# Altium footprint library TAUV-Lib.PcbLib: 56 footprints (part 2 of 4)
Each footprint in its own frame and in the unit in brackets; x right, y up, seen from the top. Pads: shape width x height; smd on the part's side, far side on the other; paste and mask are expansions set on the pad; w line width, h text height; cw(c..) or ccw(c..) is an arc to the next point about the centre after c.
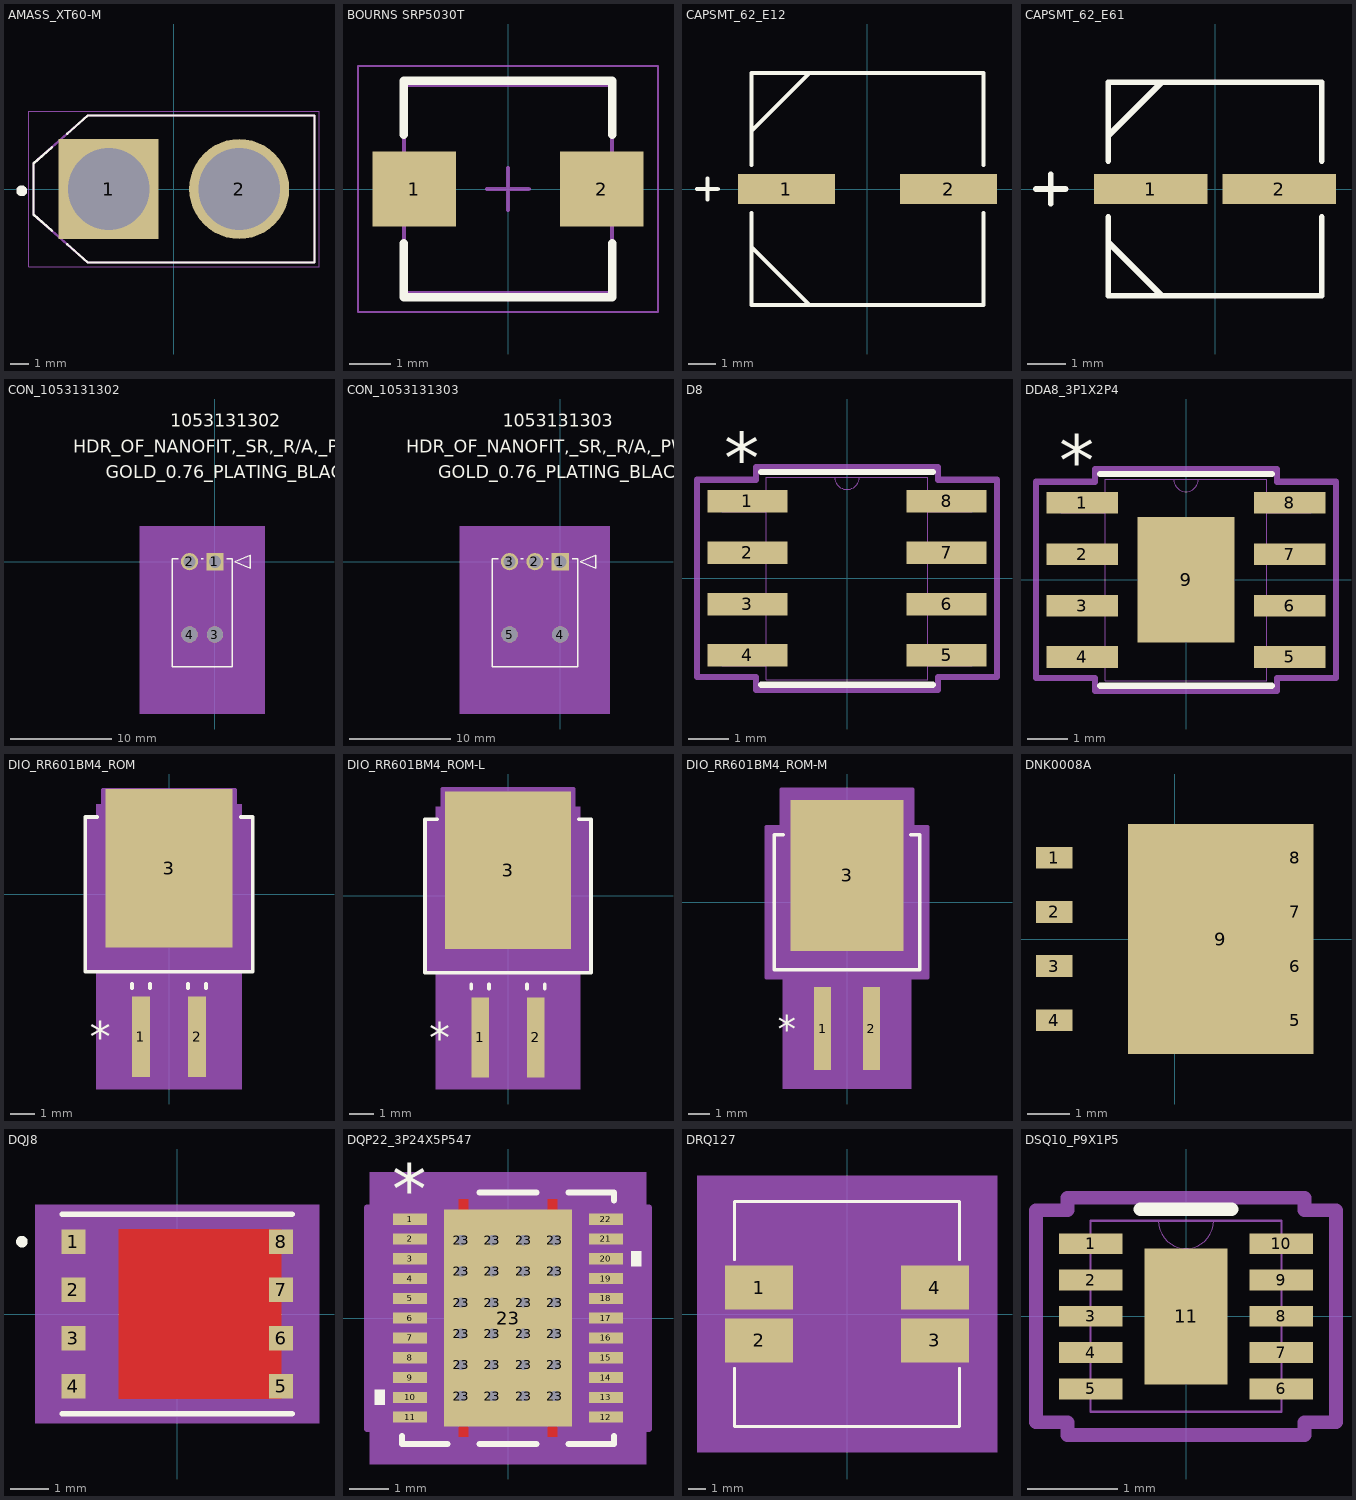
[diagram p1: the footprints below, top view; thin cyan lines are the x and y axes]

## AMASS_XT60-M [mm]
pads (2):
  rect 5.516x5.516 hole 4.5: 1(-3.6,0)
  round 5.516 hole 4.5: 2(3.6,0)
Top Overlay:
  circle w0.3: c-8.4,-0.1 r0.15
  lines w0.127: -6.73,-2.3 -7.75,-1.4 -7.75,1.4 -6.73,2.3 ; -5.88,-3.05 -4.75,-4.05 7.75,-4.05 7.75,4.05 -4.75,4.05 -5.88,3.05
Mechanical 4:
  lines w0.127: -7.75,-1.4 -7.75,1.4 ; -7.75,-1.4 -4.75,-4.05 ; -7.75,-1.4 -7.75,1.4 ; -7.75,-1.4 -4.75,-4.05 ; -7.75,1.4 -4.75,4.05 ; -7.75,1.4 -4.75,4.05 ; -4.75,-4.05 7.75,-4.05 ; -4.75,-4.05 7.75,-4.05 ; -4.75,4.05 7.75,4.05 ; -4.75,4.05 7.75,4.05 ; 7.75,-4.05 7.75,4.05 ; 7.75,-4.05 7.75,4.05
Mechanical 16:
  lines w0.05: -8,-4.3 -8,4.3 8,4.3 8,-4.3 -8,-4.3
3D body "XT60-M--3DModel-STEP-56544.STEP": height 16, standoff -4.5, extent -7.75,-3.923 7.75,4.177

## BOURNS SRP5030T [mm] "Precision Wire Wound Inductor, 2-Leads, Body 5.70x5.20mm, IPC Medium Density"
height 3
pads (2):
  rect 2x1.8 smd: 1(-2.25,0) 2(2.25,0)
Top Overlay:
  lines w0.2: -2.5,-1.3 -2.5,-2.6 2.5,-2.6 2.5,-1.3 ; -2.5,1.3 -2.5,2.6 2.5,2.6 2.5,1.3
Mechanical 13:
  lines w0.1: -2.5,-2.5 -2.5,2.5 2.5,2.5 2.5,-2.5 -2.5,-2.5
Mechanical 15:
  lines w0.05: -3.6,-2.95 -3.6,2.95 3.6,2.95 3.6,-2.95 -3.6,-2.95
  lines w0.1: -0.5,0 0.5,0 ; 0,-0.5 0,0.5
3D body "Bourns SRP5030T.STEP": height 3, standoff 0, extent -2.85,-2.6 2.85,2.6

## CAPSMT_62_E12 [mil]
pads (2):
  rect 140x43 smd: 1(-117,0) 2(117,0)
Top Overlay:
  lines w6: -246,0 -216,0 ; -231,-15 -231,15 ; -167.5,-83.75 -83.75,-167.5 ; -167.5,-34.6 -167.5,-167.5 167.5,-167.5 167.5,-34.6 ; -167.5,34.6 -167.5,167.5 167.5,167.5 167.5,34.6 ; -167.5,83.75 -83.75,167.5
3D body: height 10, standoff 0, extent 0,0 10,10

## CAPSMT_62_E61 [mil]
pads (2):
  rect 115.5x31 smd: 1(-65.25,0) 2(65.25,0)
Top Overlay:
  lines w6: -182,0 -152,0 ; -167,-15 -167,15 ; -108.5,-54.25 -54.25,-108.5 ; -108.5,-28.6 -108.5,-108.5 108.5,-108.5 108.5,-28.6 ; -108.5,28.6 -108.5,108.5 108.5,108.5 108.5,28.6 ; -108.5,54.25 -54.25,108.5
3D body: height 10, standoff 0, extent 0,0 10,10

## CON_1053131302 [mm]
pads (4):
  rect 1.7x1.7 hole 1.2 mask+0.076: 1(0,0)
  round 1.7 hole 1.2 mask+0.076: 2(-2.5,0)
  round 1.6 hole 1.6 unplated mask+0.076: 3(0,-7.18) 4(-2.5,-7.18)
Top Overlay:
  lines w0.127: -3.628,0.31 -4.22,0.31 -4.22,-10.38 1.72,-10.38 1.72,0.31 1.17,0.31 ; -1.372,0.31 -1.17,0.31 ; 1.974,0 3.498,0.635 3.498,-0.635 1.974,0
  text "1053131302" at -4.425,13.29 h1.27
  text "HDR_OF_NANOFIT,_SR,_R/A,_PWR_CONN_-2_CKT" at -13.95,10.75 h1.27
  text "GOLD_0.76_PLATING_BLACK_COLOUR" at -10.775,8.21 h1.27
Mechanical 3:
  text "NOTE" at -4.22,-18.73 h1.27
  text "MAXIMUM_PACKAGE_HEIGHT:_6.64_MM" at -4.22,-21.27 h1.27
  text "RECOMMENDED_PCB_THICKNESS:" at -4.22,-25.08 h1.27
  text "1.6_MM_TO_2.4_MM" at -4.22,-27.62 h1.27
Mechanical 5:
  region: -7.395,3.495 4.895,3.495 4.895,-15.015 -7.395,-15.015
Mechanical 10:
  text "NOTE" at -4.22,-18.73 h1.27
  text "MAXIMUM_PACKAGE_HEIGHT:_6.64_MM" at -4.22,-21.27 h1.27
  text "RECOMMENDED_PCB_THICKNESS:" at -4.22,-25.08 h1.27
  text "1.6_MM_TO_2.4_MM" at -4.22,-27.62 h1.27
Mechanical 13:
  lines w0.127: -4.22,-11.84 1.72,-11.84 1.72,0.32 -4.22,0.32 -4.22,-11.84 ; 1.974,0 3.498,0.635 3.498,-0.635 1.974,0
  text "1053131302" at -4.425,13.29 h1.27
  text "HDR_OF_NANOFIT,_SR,_R/A,_PWR_CONN_-2_CKT" at -13.95,10.75 h1.27
  text "GOLD_0.76_PLATING_BLACK_COLOUR" at -10.775,8.21 h1.27
Mechanical 15:
  region: 2.99,1.59 -5.49,1.59 -5.49,-13.11 2.99,-13.11
  lines w0.127: -5.49,-13.11 -5.49,1.59 2.99,1.59 2.99,-13.11 -5.49,-13.11
3D body: height 0.25, standoff 0, extent 0,0 0.254,0.254

## CON_1053131303 [mm]
pads (5):
  rect 1.7x1.7 hole 1.2 mask+0.076: 1(0,0)
  round 1.7 hole 1.2 mask+0.076: 2(-2.5,0) 3(-5,0)
  round 1.6 hole 1.6 unplated mask+0.076: 4(0,-7.18) 5(-5,-7.18)
Top Overlay:
  lines w0.127: -6.128,0.31 -6.72,0.31 -6.72,-10.38 1.72,-10.38 1.72,0.31 1.17,0.31 ; -3.872,0.31 -3.628,0.31 ; -1.372,0.31 -1.17,0.31 ; 1.974,0 3.498,0.635 3.498,-0.635 1.974,0
  text "1053131303" at -5.675,13.29 h1.27
  text "HDR_OF_NANOFIT,_SR,_R/A,_PWR_CONN_-3_CKT" at -15.2,10.75 h1.27
  text "GOLD_0.76_PLATING_BLACK_COLOUR" at -12.025,8.21 h1.27
Mechanical 3:
  text "NOTE" at -6.72,-18.73 h1.27
  text "MAXIMUM_PACKAGE_HEIGHT:_6.64_MM" at -6.72,-21.27 h1.27
  text "RECOMMENDED_PCB_THICKNESS:" at -6.72,-25.08 h1.27
  text "1.6_MM_TO_2.4_MM" at -6.72,-27.62 h1.27
Mechanical 5:
  region: -9.895,3.495 4.895,3.495 4.895,-15.015 -9.895,-15.015
Mechanical 10:
  text "NOTE" at -6.72,-18.73 h1.27
  text "MAXIMUM_PACKAGE_HEIGHT:_6.64_MM" at -6.72,-21.27 h1.27
  text "RECOMMENDED_PCB_THICKNESS:" at -6.72,-25.08 h1.27
  text "1.6_MM_TO_2.4_MM" at -6.72,-27.62 h1.27
Mechanical 13:
  lines w0.127: -6.72,-11.84 1.72,-11.84 1.72,0.32 -6.72,0.32 -6.72,-11.84 ; 1.974,0 3.498,0.635 3.498,-0.635 1.974,0
  text "1053131303" at -5.675,13.29 h1.27
  text "HDR_OF_NANOFIT,_SR,_R/A,_PWR_CONN_-3_CKT" at -15.2,10.75 h1.27
  text "GOLD_0.76_PLATING_BLACK_COLOUR" at -12.025,8.21 h1.27
Mechanical 15:
  region: 2.99,1.59 -7.99,1.59 -7.99,-13.11 2.99,-13.11
  lines w0.127: -7.99,-13.11 -7.99,1.59 2.99,1.59 2.99,-13.11 -7.99,-13.11
3D body: height 0.25, standoff 0, extent 0,0 0.254,0.254

## D8 [mil]
pads (8):
  rect 78x22 smd paste+0 mask+0: 1(-97,75) 2(-97,25) 3(-97,-25) 4(-97,-75) 5(97,-75) 6(97,-25) 7(97,25) 8(97,75)
Top Overlay:
  lines w6: -83.5,-103.5 83.5,-103.5 ; -83.5,103.5 83.5,103.5
  text "*" at -119.5,92 h50
Mechanical 13:
  lines w0: -12,98.5 ccw(c0,98.5) 12,98.5
  lines w1: -122,-85 -78.5,-85 -78.5,-65 -122,-65 -122,-85 ; -122,-35 -78.5,-35 -78.5,-15 -122,-15 -122,-35 ; -122,15 -78.5,15 -78.5,35 -122,35 -122,15 ; -122,65 -78.5,65 -78.5,85 -122,85 -122,65 ; -78.5,-98.5 -78.5,98.5 78.5,98.5 78.5,-98.5 -78.5,-98.5 ; 78.5,-85 122,-85 122,-65 78.5,-65 78.5,-85 ; 78.5,-35 122,-35 122,-15 78.5,-15 78.5,-35 ; 78.5,15 122,15 122,35 78.5,35 78.5,15 ; 78.5,65 122,65 122,85 78.5,85 78.5,65
  text "*" at -76,45.5 h50
Mechanical 15:
  lines w6: -146,-96 -88.5,-96 -88.5,-108.5 88.5,-108.5 88.5,-96 146,-96 146,96 88.5,96 88.5,108.5 -88.5,108.5 -88.5,96 -146,96 -146,-96
3D body: height 10, standoff 0, extent 0,0 10,10
3D body "D8.step": height 69.09, standoff 0, extent -122,-98.5 122.01,98.51

## DDA8_3P1X2P4 [mil]
pads (9):
  rect 70x21 smd paste+0 mask+0: 1(-101,75) 2(-101,25) 3(-101,-25) 4(-101,-75) 5(101,-75) 6(101,-25) 7(101,25) 8(101,75)
  rect 94.49x122.05 smd paste-60.52 mask+0: 9(0,0)
Top Overlay:
  lines w6: -83.5,-103 83.5,-103 ; -83.5,103 83.5,103
  text "*" at -123.5,91 h50
Top Paste:
  region: 43.31,-3.94 -43.31,-3.94 -43.31,-57.09 43.31,-57.09
  region: 43.31,57.09 -43.31,57.09 -43.31,3.94 43.31,3.94
Mechanical 13:
  lines w0: -12,98 ccw(c0,98) 12,98
  lines w1: -122,-84.5 -78.5,-84.5 -78.5,-65.5 -122,-65.5 -122,-84.5 ; -122,-34.5 -78.5,-34.5 -78.5,-15.5 -122,-15.5 -122,-34.5 ; -122,15.5 -78.5,15.5 -78.5,34.5 -122,34.5 -122,15.5 ; -122,65.5 -78.5,65.5 -78.5,84.5 -122,84.5 -122,65.5 ; -78.5,-98 -78.5,98 78.5,98 78.5,-98 -78.5,-98 ; 78.5,-84.5 122,-84.5 122,-65.5 78.5,-65.5 78.5,-84.5 ; 78.5,-34.5 122,-34.5 122,-15.5 78.5,-15.5 78.5,-34.5 ; 78.5,15.5 122,15.5 122,34.5 78.5,34.5 78.5,15.5 ; 78.5,65.5 122,65.5 122,84.5 78.5,84.5 78.5,65.5
  text "*" at -76,45 h50
Mechanical 15:
  lines w6: -146,-95.5 -88.5,-95.5 -88.5,-108 88.5,-108 88.5,-95.5 146,-95.5 146,95.5 88.5,95.5 88.5,108 -88.5,108 -88.5,95.5 -146,95.5 -146,-95.5
3D body: height 10, standoff 0, extent 0,0 10,10
3D body "DDA8_3P1X2P4.step": height 66.1, standoff -2.01, extent -122,-97.99 122.01,98

## DIO_RR601BM4_ROM [mil]
pads (3):
  rect 29x130 smd paste+0 mask+0: 1(-45.28,-230) 2(45.28,-230)
  rect 205x256 smd paste+0 mask+0: 3(0,42)
Top Overlay:
  lines w6: -115.6,125 -135,125 -135,-125 135,-125 135,125 115.6,125 ; -59.78,-151 -59.78,-144 ; -30.78,-151 -30.78,-144 ; 30.78,-151 30.78,-144 ; 59.78,-151 59.78,-144
  text "*" at -128.05,-255 h50
Mechanical 5:
  region: -117.5,145 117.5,145 117.5,-314 -117.5,-314
Mechanical 13:
  lines w1: -130,-120 -130,120 130,120 130,-120 -130,-120 ; -59.78,-289 -30.78,-289 -30.78,-120 -59.78,-120 -59.78,-289 ; 30.78,-289 59.78,-289 59.78,-120 30.78,-120 30.78,-289
  text "*" at -57.78,-135 h50
Mechanical 15:
  region: -134,-124 -134,124 -106.5,124 -106.5,169 106.5,169 106.5,124 134,124 134,-124 53.28,-124 53.28,-299 -53.28,-299 -53.28,-124
  lines w6: -134,-124 -53.28,-124 -53.28,-299 53.28,-299 53.28,-124 134,-124 134,124 106.5,124 106.5,169 -106.5,169 -106.5,124 -134,124 -134,-124
3D body "DIO_RR601BM4_ROM.step": height 5, standoff -2.01, extent -88.47,-289.02 102.52,150.2

## DIO_RR601BM4_ROM-L [mil]
pads (3):
  rect 29x130 smd paste+0 mask+0: 1(-45.28,-230) 2(45.28,-230)
  rect 205x256 smd paste+0 mask+0: 3(0,42)
Top Overlay:
  lines w6: -115.6,125 -135,125 -135,-125 135,-125 135,125 115.6,125 ; -59.78,-151 -59.78,-144 ; -30.78,-151 -30.78,-144 ; 30.78,-151 30.78,-144 ; 59.78,-151 59.78,-144
  text "*" at -128.05,-255 h50
Mechanical 5:
  region: -117.5,145 117.5,145 117.5,-314 -117.5,-314
Mechanical 13:
  lines w1: -130,-120 130,-120 130,120 -130,120 -130,-120 ; -59.78,-289 -59.78,-120 -30.78,-120 -30.78,-289 -59.78,-289 ; 30.78,-289 30.78,-120 59.78,-120 59.78,-289 30.78,-289
  text "*" at -57.78,-135 h50
Mechanical 15:
  region: -134,-124 -134,124 -106.5,124 -106.5,174 106.5,174 106.5,124 134,124 134,-124 63.78,-124 63.78,-299 -63.78,-299 -63.78,-124
  lines w6: -134,-124 -134,124 -106.5,124 -106.5,174 106.5,174 106.5,124 134,124 134,-124 63.78,-124 63.78,-299 -63.78,-299 -63.78,-124 -134,-124
3D body "DIO_RR601BM4_ROM.step": height 5, standoff -2.01, extent -88.47,-289.02 102.52,150.2

## DIO_RR601BM4_ROM-M [mil]
pads (3):
  rect 31x154 smd paste+0 mask+0: 1(-45.28,-234) 2(45.28,-234)
  rect 209x280 smd paste+0 mask+0: 3(0,50)
Top Overlay:
  lines w6: -117.6,125 -135,125 -135,-125 135,-125 135,125 117.6,125
  text "*" at -128.05,-259 h50
Mechanical 5:
  region: -119.5,177 119.5,177 119.5,-346 -119.5,-346
Mechanical 13:
  lines w1: -130,-120 -130,120 130,120 130,-120 -130,-120 ; -59.78,-289 -30.78,-289 -30.78,-120 -59.78,-120 -59.78,-289 ; 30.78,-289 59.78,-289 59.78,-120 30.78,-120 30.78,-289
  text "*" at -57.78,-135 h50
Mechanical 15:
  region: -150,-140 -150,140 -122.5,140 -122.5,210 122.5,210 122.5,140 150,140 150,-140 80.78,-140 80.78,-331 -80.78,-331 -80.78,-140
  lines w6: -150,-140 -80.78,-140 -80.78,-331 80.78,-331 80.78,-140 150,-140 150,140 122.5,140 122.5,210 -122.5,210 -122.5,140 -150,140 -150,-140
3D body "DIO_RR601BM4_ROM.step": height 5, standoff -2.01, extent -88.47,-289.02 102.52,150.2

## DNK0008A [mm]
pads (9):
  rect 0.86x0.51 smd paste-0.05 mask-0.051: 1(-2.82,1.905) 2(-2.82,0.635) 3(-2.82,-0.635) 4(-2.82,-1.905) 5(2.82,-1.905) 6(2.82,-0.635) 7(2.82,0.635) 8(2.82,1.905)
  rect 4.34x5.4 smd paste-2.687 mask-2.692: 9(1.08,0)
Top Paste:
  drawing of 11 lines, arcs and shapes, not listed
Top Solder:
  region: -0.955,-1.98 -0.955,-2.16 -0.705,-2.16 -0.705,-1.98
  region: -0.955,2.16 -0.955,1.98 -0.705,1.98 -0.705,2.16
  region: -0.954,2.135 -0.955,2.145 -0.955,2.6 -0.954,2.61 -0.951,2.619 -0.947,2.628 -0.94,2.635 -0.933,2.642 -0.924,2.646 -0.915,2.649 -0.905,2.65 -0.755,2.65 -0.745,2.649 -0.736,2.646 -0.727,2.642 -0.72,2.635 -0.713,2.628 -0.709,2.619 -0.706,2.61 -0.705,2.6 -0.705,2.145 -0.706,2.135 -0.709,2.126 -0.713,2.117 -0.72,2.11 -0.727,2.103 -0.736,2.099 -0.745,2.096 -0.755,2.095 -0.905,2.095 -0.915,2.096 -0.924,2.099 -0.933,2.103 -0.94,2.11 -0.947,2.117 -0.951,2.126
  region: -0.954,-2.61 -0.955,-2.6 -0.955,-2.145 -0.954,-2.135 -0.951,-2.126 -0.947,-2.117 -0.94,-2.11 -0.933,-2.103 -0.924,-2.099 -0.915,-2.096 -0.905,-2.095 -0.755,-2.095 -0.745,-2.096 -0.736,-2.099 -0.727,-2.103 -0.72,-2.11 -0.713,-2.117 -0.709,-2.126 -0.706,-2.135 -0.705,-2.145 -0.705,-2.6 -0.706,-2.61 -0.709,-2.619 -0.713,-2.628 -0.72,-2.635 -0.727,-2.642 -0.736,-2.646 -0.745,-2.649 -0.755,-2.65 -0.905,-2.65 -0.915,-2.649 -0.924,-2.646 -0.933,-2.642 -0.94,-2.635 -0.947,-2.628 -0.951,-2.619
  region: -1.039,-1.957 -1.04,-1.946 -1.04,1.946 -1.039,1.957 -1.036,1.967 -1.031,1.976 -1.024,1.984 -1.016,1.991 -1.007,1.996 -0.997,1.999 -0.986,2 2.486,2 2.497,1.999 2.507,1.996 2.516,1.991 2.524,1.984 2.531,1.976 2.536,1.967 2.539,1.957 2.54,1.946 2.54,-1.946 2.539,-1.957 2.536,-1.967 2.531,-1.976 2.524,-1.984 2.516,-1.991 2.507,-1.996 2.497,-1.999 2.486,-2 -0.986,-2 -0.997,-1.999 -1.007,-1.996 -1.016,-1.991 -1.024,-1.984 -1.031,-1.976 -1.036,-1.967
3D body: height 0.25, standoff 0, extent 0,0 0.254,0.254

## DQJ8 [mm]
pads (8):
  rect 0.63x0.65 smd paste-0.1: 1(-2.735,1.905) 2(-2.735,0.635) 3(-2.735,-0.635) 4(-2.735,-1.905) 5(2.735,-1.905) 6(2.735,-0.635) 7(2.735,0.635) 8(2.735,1.905)
Top Layer:
  region: 2.745,0 2.745,-2.23 -1.545,-2.23 -1.545,0
  region: 2.745,0 2.745,2.23 -1.545,2.23 -1.545,0
Top Overlay:
  circle w0.152: c-4.091,1.905 r0.076
  lines w0.152: -3.027,-2.627 3.027,-2.627 ; -3.027,2.627 3.027,2.627
Top Paste:
  region: -0.18,-1.88 -0.18,-0.31 -1.415,-0.31 -1.415,-1.88
  region: -0.18,1.88 -0.18,0.31 -1.415,0.31 -1.415,1.88
  region: 0.32,1.88 0.32,0.31 1.905,0.31 1.905,1.88
  region: 0.32,-1.88 0.32,-0.31 1.905,-0.31 1.905,-1.88
Top Solder:
  region: 2.745,0 2.745,-2.23 -1.545,-2.23 -1.545,0
  region: 2.745,0 2.745,2.23 -1.545,2.23 -1.545,0
  region: 3.12,2.3 2.35,2.3 2.35,1.51 3.12,1.51
  region: 3.12,1.03 2.35,1.03 2.35,0.24 3.12,0.24
  region: 3.12,-0.24 2.35,-0.24 2.35,-1.03 3.12,-1.03
  region: 3.12,-1.51 2.35,-1.51 2.35,-2.3 3.12,-2.3
  region: -2.35,-1.51 -3.12,-1.51 -3.12,-2.3 -2.35,-2.3
  region: -2.35,-0.24 -3.12,-0.24 -3.12,-1.03 -2.35,-1.03
  region: -2.35,1.03 -3.12,1.03 -3.12,0.24 -2.35,0.24
  region: -2.35,2.3 -3.12,2.3 -3.12,1.51 -2.35,1.51
Mechanical 5:
  region: 3.736,-2.881 -3.736,-2.881 -3.736,2.881 3.736,2.881
Mechanical 13:
  circle w0: c-2.725,1.905 r0.076
  lines w0: -0.305,2.5 ccw(c0,2.5) 0.305,2.5
  lines w0.025: -2.9,-2.5 -2.9,2.5 2.9,2.5 2.9,-2.5 -2.9,-2.5
Mechanical 15:
  region: -3.154,-2.591 -3.609,-2.591 -3.609,2.591 -3.154,2.591 -3.154,2.754 3.154,2.754 3.154,2.591 3.609,2.591 3.609,-2.591 3.154,-2.591 3.154,-2.754 -3.154,-2.754
  lines w0.152: -3.609,-2.591 -3.154,-2.591 -3.154,-2.754 3.154,-2.754 3.154,-2.591 3.609,-2.591 3.609,2.591 3.154,2.591 3.154,2.754 -3.154,2.754 -3.154,2.591 -3.609,2.591 -3.609,-2.591
3D body: height 0.25, standoff 0, extent 0,0 0.254,0.254
3D body: height 2.06, standoff 0, extent -2.9,-2.5 2.9,2.5

## DQP22_3P24X5P547 [mil]
pads (47):
  rect 33.46x11.02 smd paste-16.73: 1(-97.44,98.43) 2(-97.44,78.74) 3(-97.44,59.06) 4(-97.44,39.37) 5(-97.44,19.68) 6(-97.44,0) 7(-97.44,-19.68) 8(-97.44,-39.37) 9(-97.44,-59.06) 10(-97.44,-78.74) 11(-97.44,-98.43) 12(97.44,-98.43) 13(97.44,-78.74) 14(97.44,-59.06) 15(97.44,-39.37) 16(97.44,-19.68) 17(97.44,0) 18(97.44,19.68) 19(97.44,39.37) 20(97.44,59.06) 21(97.44,78.74) 22(97.44,98.43)
  round 20 hole 10: 23(-46.5,-77.5) 23(-46.5,-46.5) 23(-46.5,-15.5) 23(-46.5,15.5) 23(-46.5,46.5) 23(-46.5,77.5) 23(-15.5,-77.5) 23(-15.5,-46.5) 23(-15.5,-15.5) 23(-15.5,15.5) 23(-15.5,46.5) 23(-15.5,77.5) 23(15.5,-77.5) 23(15.5,-46.5) 23(15.5,-15.5) 23(15.5,15.5) 23(15.5,46.5) 23(15.5,77.5) 23(46.5,-77.5) 23(46.5,-46.5) 23(46.5,-15.5) 23(46.5,15.5) 23(46.5,46.5) 23(46.5,77.5)
  rect 127.56x215.71 smd paste-107.85 mask-107.5: 23(0,0)
Top Layer:
  region: 0,107.85
  region: 0,-107.85
  region: 49.21,107.85 39.37,107.85 39.37,118.09 49.21,118.09
  region: -49.21,107.85 -39.37,107.85 -39.37,118.09 -49.21,118.09
  region: -49.21,-107.85 -39.37,-107.85 -39.37,-118.09 -49.21,-118.09
  region: 49.21,-107.85 39.37,-107.85 39.37,-118.09 49.21,-118.09
Top Overlay:
  region: -122.39,-71.24 -132.4,-71.24 -132.4,-86.24 -122.39,-86.24
  region: 122.39,66.56 132.4,66.56 132.4,51.56 122.39,51.56
  lines w6: -105.39,-117.04 -105.39,-125.08 -60.29,-125.08 ; -28.29,-125.08 28.29,-125.08 ; -28.29,125.08 28.29,125.08 ; 60.29,-125.08 105.39,-125.08 105.39,-117.04 ; 60.29,125.08 105.39,125.08 105.39,117.04
  text "*" at -115,103.35 h50
Top Paste:
  drawing of 63 lines, arcs and shapes, not listed
Top Solder:
  drawing of 40 lines, arcs and shapes, not listed
Mechanical 5:
  region: 137.4,-145.08 -137.4,-145.08 -137.4,145.08 137.4,145.08
Mechanical 13:
  lines w0: -12,120.08 ccw(c0,120.08) 12,120.08
  lines w1: -100.39,-103.35 -100.39,-93.5 ; -100.39,-103.35 -100.39,-93.5 ; -100.39,-103.35 -100.39,-103.35 ; -100.39,-93.5 -100.39,-93.5 ; -100.39,-83.66 -100.39,-73.82 ; -100.39,-83.66 -100.39,-73.82 ; -100.39,-83.66 -100.39,-83.66 ; -100.39,-73.82 -100.39,-73.82 ; -100.39,-63.98 -100.39,-54.13 ; -100.39,-63.98 -100.39,-54.13 ; -100.39,-63.98 -100.39,-63.98 ; -100.39,-54.13 -100.39,-54.13 ; -100.39,-44.29 -100.39,-34.45 ; -100.39,-44.29 -100.39,-34.45 ; -100.39,-44.29 -100.39,-44.29 ; -100.39,-34.45 -100.39,-34.45 ; -100.39,-24.61 -100.39,-14.76 ; -100.39,-24.61 -100.39,-14.76 ; -100.39,-24.61 -100.39,-24.61 ; -100.39,-14.76 -100.39,-14.76 ; -100.39,-4.92 -100.39,4.92 ; -100.39,-4.92 -100.39,4.92 ; -100.39,-4.92 -100.39,-4.92 ; -100.39,4.92 -100.39,4.92 ; -100.39,14.76 -100.39,24.61 ; -100.39,14.76 -100.39,24.61 ; -100.39,14.76 -100.39,14.76 ; -100.39,24.61 -100.39,24.61 ; -100.39,34.45 -100.39,44.29 ; -100.39,34.45 -100.39,44.29 ; -100.39,34.45 -100.39,34.45 ; -100.39,44.29 -100.39,44.29 ; -100.39,54.13 -100.39,63.98 ; -100.39,54.13 -100.39,63.98 ; -100.39,54.13 -100.39,54.13 ; -100.39,63.98 -100.39,63.98 ; -100.39,73.82 -100.39,83.66 ; -100.39,73.82 -100.39,83.66 ; -100.39,73.82 -100.39,73.82 ; -100.39,83.66 -100.39,83.66 ; -100.39,93.5 -100.39,103.35 ; -100.39,93.5 -100.39,103.35 ; -100.39,93.5 -100.39,93.5 ; -100.39,103.35 -100.39,103.35 ; 100.39,-103.35 100.39,-93.5 ; 100.39,-103.35 100.39,-103.35 ; 100.39,-103.35 100.39,-93.5 ; 100.39,-93.5 100.39,-93.5 ; 100.39,-83.66 100.39,-73.82 ; 100.39,-83.66 100.39,-83.66 ; 100.39,-83.66 100.39,-73.82 ; 100.39,-73.82 100.39,-73.82 ; 100.39,-63.98 100.39,-54.13 ; 100.39,-63.98 100.39,-63.98 ; 100.39,-63.98 100.39,-54.13 ; 100.39,-54.13 100.39,-54.13 ; 100.39,-44.29 100.39,-34.45 ; 100.39,-44.29 100.39,-44.29 ; 100.39,-44.29 100.39,-34.45 ; 100.39,-34.45 100.39,-34.45 ; 100.39,-24.61 100.39,-14.76 ; 100.39,-24.61 100.39,-24.61 ; 100.39,-24.61 100.39,-14.76 ; 100.39,-14.76 100.39,-14.76 ; 100.39,-4.92 100.39,4.92 ; 100.39,-4.92 100.39,-4.92 ; 100.39,-4.92 100.39,4.92 ; 100.39,4.92 100.39,4.92 ; 100.39,14.76 100.39,24.61 ; 100.39,14.76 100.39,14.76 ; 100.39,14.76 100.39,24.61 ; 100.39,24.61 100.39,24.61 ; 100.39,34.45 100.39,44.29 ; 100.39,34.45 100.39,34.45 ; 100.39,34.45 100.39,44.29 ; 100.39,44.29 100.39,44.29 ; 100.39,54.13 100.39,63.98 ; 100.39,54.13 100.39,54.13 ; 100.39,54.13 100.39,63.98 ; 100.39,63.98 100.39,63.98 ; 100.39,73.82 100.39,83.66 ; 100.39,73.82 100.39,73.82 ; 100.39,73.82 100.39,83.66 ; 100.39,83.66 100.39,83.66 ; 100.39,93.5 100.39,103.35 ; 100.39,93.5 100.39,93.5 ; 100.39,93.5 100.39,103.35 ; 100.39,103.35 100.39,103.35 ; -100.39,-120.08 100.39,-120.08 100.39,120.08 -100.39,120.08 -100.39,-120.08
  text "*" at -102.89,59.45 h50
Mechanical 15:
  region: -110.39,-110.27 -122.39,-110.27 -122.39,110.27 -110.39,110.27 -110.39,130.08 110.39,130.08 110.39,110.27 122.39,110.27 122.39,-110.27 110.39,-110.27 110.39,-130.08 -110.39,-130.08
  lines w6: -140.08,-110.27 -140.08,110.27 -110.39,110.27 -110.39,130.08 110.39,130.08 110.39,110.27 140.08,110.27 140.08,-110.27 110.39,-110.27 110.39,-130.08 -110.39,-130.08 -110.39,-110.27 -140.08,-110.27
3D body: height 10, standoff 0, extent 0,0 10,10
3D body: height 59.06, standoff 0, extent -100.39,-120.08 100.39,120.08

## DRQ127 [mil]
pads (4):
  rect 152x98 smd paste+0 mask+0: 1(-196,59) 2(-196,-59) 3(196,-59) 4(196,59)
Top Overlay:
  lines w6: -251,-121.1 -251,-251 251,-251 251,-121.1 ; -251,121.1 -251,251 251,251 251,121.1
Mechanical 5:
  region: 334.5,-308.5 -334.5,-308.5 -334.5,308.5 334.5,308.5
Mechanical 13:
  lines w1: -246,-246 -246,246 246,246 246,-246 -246,-246
Mechanical 15:
  region: -256,-118 -282,-118 -282,118 -256,118 -256,256 256,256 256,118 282,118 282,-118 256,-118 256,-256 -256,-256
  lines w6: -282,-118 -256,-118 -256,-256 256,-256 256,-118 282,-118 282,118 256,118 256,256 -256,256 -256,118 -282,118 -282,-118
3D body "DRQ127.step": height 315, standoff 0, extent -258.23,-245.98 258.23,245.98

## DSQ10_P9X1P5 [mm]
pads (11):
  rect 0.7x0.23 smd paste-0.115 mask+0: 1(-1.05,0.8) 2(-1.05,0.4) 3(-1.05,0) 4(-1.05,-0.4) 5(-1.05,-0.8) 6(1.05,-0.8) 7(1.05,-0.4) 8(1.05,0) 9(1.05,0.4) 10(1.05,0.8)
  rect 0.914x1.499 smd paste-0.737 mask-0.737: 11(0,0)
Top Layer:
  region: 0,0.749
  region: 0,-0.749
Top Overlay:
  lines w0.152: -0.5,1.181 0.5,1.181
Top Paste:
  region: -0.1,0.674 -0.382,0.674 -0.382,0.1 -0.241,0.1 -0.1,0.241
  region: -0.241,-0.1 -0.382,-0.1 -0.382,-0.674 -0.1,-0.674 -0.1,-0.241
  region: 0.382,0.674 0.1,0.674 0.1,0.241 0.241,0.1 0.382,0.1
  region: 0.382,-0.1 0.241,-0.1 0.1,-0.241 0.1,-0.674 0.382,-0.674
Top Solder:
  region: -0.521,0.2 -0.521,0.813 0.521,0.813 0.521,0.2
  region: -0.521,-0.813 -0.521,-0.2 0.521,-0.2 0.521,-0.813
  region: -0.521,-0.813 -0.521,0.813 -0.2,0.813 -0.2,-0.813
  region: 0.2,-0.813 0.2,0.813 0.521,0.813 0.521,-0.813
  region: 0,0.749
  region: 0,-0.749
Mechanical 13:
  lines w0: -0.305,1.054 ccw(c0,1.054) 0.305,1.054
  lines w0.025: -1.054,-1.054 1.054,-1.054 1.054,1.054 -1.054,1.054 -1.054,-1.054
Mechanical 15:
  lines w0.152: -1.654,-1.169 -1.654,1.169 -1.308,1.169 -1.308,1.308 1.308,1.308 1.308,1.169 1.654,1.169 1.654,-1.169 1.308,-1.169 1.308,-1.308 -1.308,-1.308 -1.308,-1.169 -1.654,-1.169
Mechanical 16:
  circle w0: c0,0 r0.127
3D body: height 0.25, standoff 0, extent 0,0 0.254,0.254
3D body "DSQ10_P9X1P5.step": height 0.79, standoff 0, extent -1.054,-1.054 1.054,1.054